# Altium footprint library pifa_lib_pcb.PcbLib: 1 footprints
Each footprint in its own frame and in the unit in brackets; x right, y up, seen from the top. Pads: shape width x height; smd on the part's side, far side on the other; paste and mask are expansions set on the pad; w line width, h text height; cw(c..) or ccw(c..) is an arc to the next point about the centre after c.
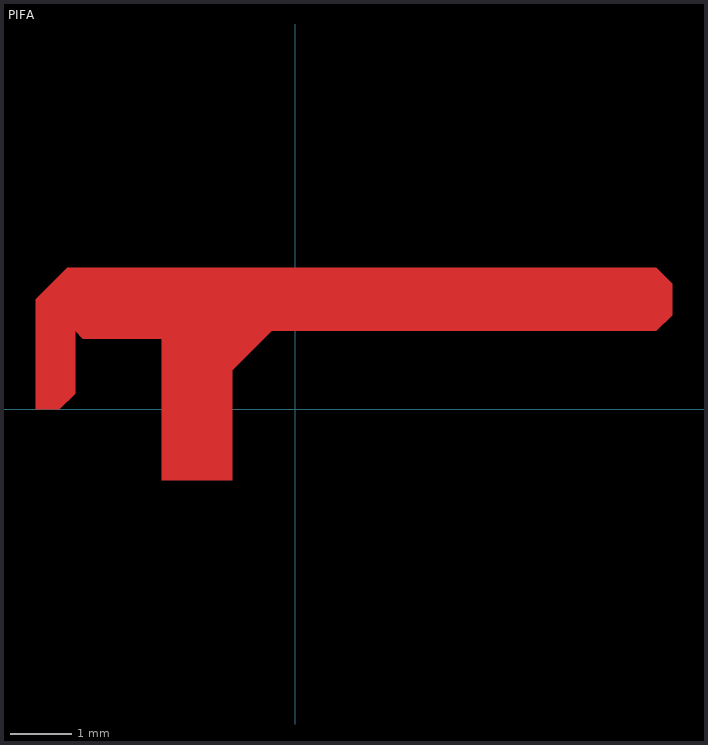
[diagram p0: the footprint, top view; thin cyan lines are the x and y axes]

## PIFA [mm]
Top Layer:
  region: -2.159,1.143 -3.429,1.143 -3.556,1.27 -3.556,0.254 -3.81,0 -4.191,0 -4.191,1.778 -3.683,2.286 5.842,2.286 6.096,2.032 6.096,1.524 5.842,1.27 -0.381,1.27 -1.016,0.635 -1.016,-1.143 -2.159,-1.143